# Altium schematic symbol library WR-NTYPE.SchLib: 4 symbols
Pins are listed as number, name and electrical type; pins without a type are passive.

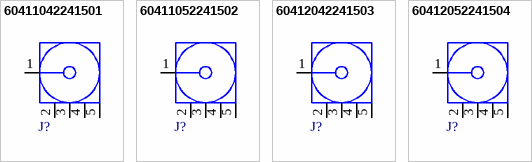
[diagram p0: symbols 60411042241501 to 60412052241504]

## 60411042241501
designator J?  (value not drawn)
WR-NTYPE N Type PCB Connector, Right Angle Jack, DC~4GHz, 50Ohm; Manufacturer: Wurth Elektronik; Center Contact Diameter: 1.6mm; Panel Thickness: 6.5mm; Manufacturer Part Number: 60411042241501; Category: Coaxial Connectors; Match Code: WR-NTYPE; ComponentLink1Description: Website Link; ComponentLink1URL: https://www.we-online.com/redexpert/article/60411042241501?ad; ComponentLink2Description: Datasheet Link; ComponentLink2URL: https://www.we-online.com/redexpert/spec/60411042241501?ad; Mount: Through Hole; Operating Temperature Max: 165°C; Operating Temperature Min: -65°C; Packaging: Tray; Frequency Range: DC~4GHz; Gender: Jack; Impedance: 50Ohm; Orientation: Right Angle
footprint 60411042241501
pins: 1 Signal "Signal Pin", 2 GND, 3 GND, 4 GND, 5 GND

## 60411052241502
designator J?  (value not drawn)
WR-NTYPE N Type PCB Connector, Right Angle Jack, DC~4GHz, 50Ohm; Manufacturer: Wurth Elektronik; Center Contact Diameter: 1.6mm; Ingress Protection Code: IP67; Panel Thickness: 6.5mm; Manufacturer Part Number: 60411052241502; Category: Coaxial Connectors; Match Code: WR-NTYPE; ComponentLink1Description: Website Link; ComponentLink1URL: https://www.we-online.com/redexpert/article/60411052241502?ad; ComponentLink2Description: Datasheet Link; ComponentLink2URL: https://www.we-online.com/redexpert/spec/60411052241502?ad; Mount: Through Hole; Operating Temperature Max: 165°C; Operating Temperature Min: -65°C; Packaging: Tray; Frequency Range: DC~4GHz; Gender: Jack; Impedance: 50Ohm; Orientation: Right Angle
footprint 60411052241502
pins: 1 Signal "Signal Pin", 2 GND, 3 GND, 4 GND, 5 GND

## 60412042241503
designator J?  (value not drawn)
WR-NTYPE N Type PCB Connector, Straight Jack, DC~6GHz, 50Ohm; Manufacturer: Wurth Elektronik; Center Contact Diameter: 1.14mm; Panel Thickness: 6.5mm; Manufacturer Part Number: 60412042241503; Category: Coaxial Connectors; Match Code: WR-NTYPE; ComponentLink1Description: Website Link; ComponentLink1URL: https://www.we-online.com/redexpert/article/60412042241503?ad; ComponentLink2Description: Datasheet Link; ComponentLink2URL: https://www.we-online.com/redexpert/spec/60412042241503?ad; Mount: Through Hole; Operating Temperature Max: 165°C; Operating Temperature Min: -65°C; Packaging: Tray; Frequency Range: DC~6GHz; Gender: Jack; Impedance: 50Ohm; Orientation: Straight
footprint 60412042241503
pins: 1 Signal "Signal Pin", 2 GND, 3 GND, 4 GND, 5 GND

## 60412052241504
designator J?  (value not drawn)
WR-NTYPE N Type PCB Connector, Straight Jack, DC~6GHz, 50Ohm; Manufacturer: Wurth Elektronik; Center Contact Diameter: 1.14mm; Ingress Protection Code: IP67; Panel Thickness: 6.5mm; Manufacturer Part Number: 60412052241504; Category: Coaxial Connectors; Match Code: WR-NTYPE; ComponentLink1Description: Website Link; ComponentLink1URL: https://www.we-online.com/redexpert/article/60412052241504?ad; ComponentLink2Description: Datasheet Link; ComponentLink2URL: https://www.we-online.com/redexpert/spec/60412052241504?ad; Mount: Through Hole; Operating Temperature Max: 165°C; Operating Temperature Min: -65°C; Packaging: Tray; Frequency Range: DC~6GHz; Gender: Jack; Impedance: 50Ohm; Orientation: Straight
footprint 60412052241504
pins: 1 Signal "Signal Pin", 2 GND, 3 GND, 4 GND, 5 GND